# Altium footprint library TK13P25DRQ.PcbLib: 1 footprints
Each footprint in its own frame and in the unit in brackets; x right, y up, seen from the top. Pads: shape width x height; smd on the part's side, far side on the other; paste and mask are expansions set on the pad; w line width, h text height; cw(c..) or ccw(c..) is an arc to the next point about the centre after c.
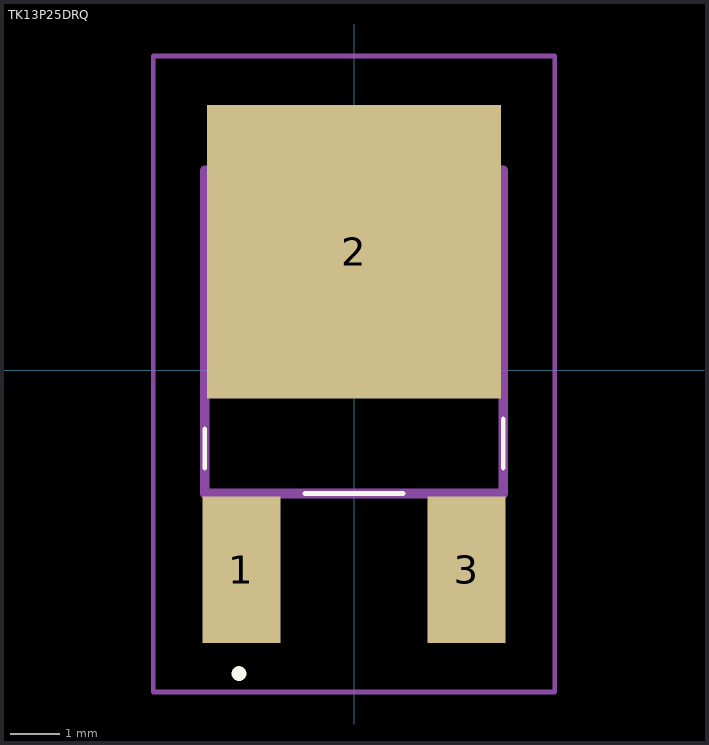
[diagram p0: the footprint, top view; thin cyan lines are the x and y axes]

## TK13P25DRQ [mm]
pads (3):
  rect 1.6x3 smd: 1(-2.3,-4.08) 3(2.3,-4.08)
  rect 6x6 smd: 2(0,2.42)
Top Overlay:
  lines w0.1: -3.05,-2 -3.05,-1.2 ; -3.05,-2 -3.05,-2 ; -3.05,-2 -3.05,-1.2 ; -3.05,-1.2 -3.05,-1.2 ; -1,-2.52 1,-2.52 ; -1,-2.52 1,-2.52 ; -1,-2.52 -1,-2.52 ; 1,-2.52 1,-2.52 ; 3.05,-2 3.05,-2 ; 3.05,-2 3.05,-1 ; 3.05,-2 3.05,-1 ; 3.05,-1 3.05,-1
  lines w0.2: -2.4,-6.2 -2.4,-6.2 ; -2.4,-6.2 ccw(c-2.35,-6.2) -2.3,-6.2 ; -2.4,-6.2 cw(c-2.35,-6.2) -2.3,-6.2 ; -2.4,-6.2 -2.4,-6.2 ; -2.4,-6.2 ccw(c-2.35,-6.2) -2.3,-6.2 ; -2.3,-6.2 -2.3,-6.2
Mechanical 15:
  lines w0.2: -3.05,-2.52 3.05,-2.52 3.05,4.08 -3.05,4.08 -3.05,-2.52
Mechanical 20:
  lines w0.1: -4.1,-6.58 4.1,-6.58 4.1,6.42 -4.1,6.42 -4.1,-6.58